# EAGLE library part XPORT-AR (library lantronix)
Serial to 10/100 Ethernet transceiver Source: http://www.lantronix.com/pdf/XPort_DS.pdf
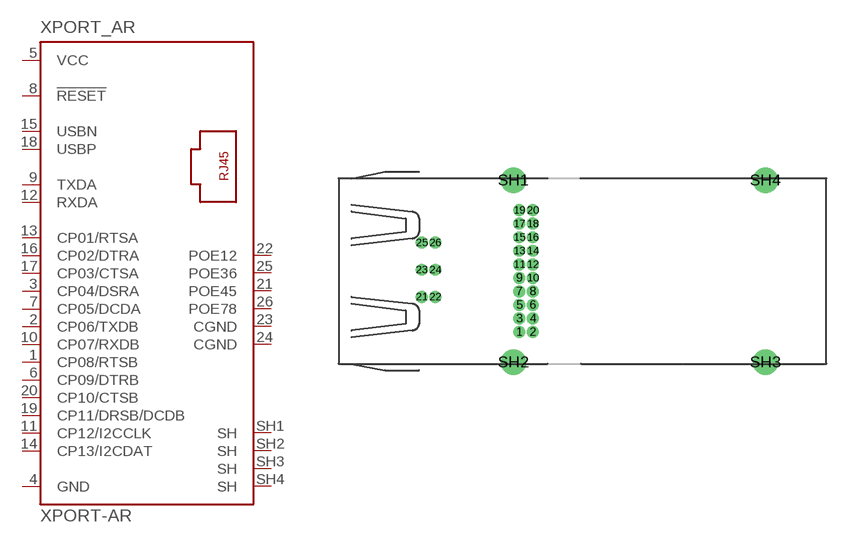
[diagram p1: symbol with the pads of XPORT-AR; footprint XPORT-AR]

Designator prefix XPORT_AR

## XPORT-AR  [XPORT-AR]
1  CP08/RTSB
2  CP06/TXDB
3  CP04/DSRA
4  GND  pwr
5  VCC  pwr
6  CP09/DTRB
7  CP05/DCDA
8  !RESET  in
9  TXDA  out
10  CP07/RXDB
11  CP12/I2CCLK
12  RXDA  in
13  CP01/RTSA
14  CP13/I2CDAT
15  USBN
16  CP02/DTRA
17  CP03/CTSA
18  USBP
19  CP11/DRSB/DCDB
20  CP10/CTSB
21  POE45  pas
22  POE12  pas
23  CGND  pas
24  CGND  pas
25  POE36  pas
26  POE78  pas
SH1  SH  pas
SH2  SH  pas
SH3  SH  pas
SH4  SH  pas

## Footprint XPORT-AR (pad centres in mm)
drill 0.61 round: 1 0,0; 2 1.27,0; 3 0,1.27; 4 1.27,1.27; 5 0,2.54; 6 1.27,2.54; 7 0,3.81; 8 1.27,3.81; 9 0,5.08; 10 1.27,5.08; 11 0,6.35; 12 1.27,6.35; 13 0,7.62; 14 1.27,7.62; 15 0,8.89; 16 1.27,8.89; 17 0,10.16; 18 1.27,10.16; 19 0,11.43; 20 1.27,11.43; 21 -9.144,3.302; 22 -7.874,3.302; 23 -9.144,5.842; 24 -7.874,5.842; 25 -9.144,8.382; 26 -7.874,8.382
drill 1.6 round: SH1 -0.546,14.248; SH2 -0.546,-2.818; SH3 23.076,-2.818; SH4 23.076,14.248